# EAGLE library part MMDT5401 (library rpibout)
150V DUAL PNP SMALL SIGNAL TRANSISTOR IN SOT363
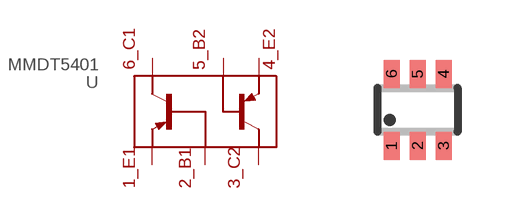
[diagram p2: symbol with the pads of SOT363; footprint SOT363]

Designator prefix -

## MMDT5401  [SOT363]
1  E1  pas
2  B1  pas
3  C2  pas
4  E2  pas
5  B2  pas
6  C1  pas

## Footprint SOT363 (pad centres in mm)
Small Outline Transistor SOT363 6 leads
smd 0.4 x 0.7: 1 -0.65,-0.9; 2 0,-0.9; 3 0.65,-0.9; 4 0.65,0.9; 5 0,0.9; 6 -0.65,0.9